# EAGLE library part SWD (library programming_headers)
SWD Programming Interface
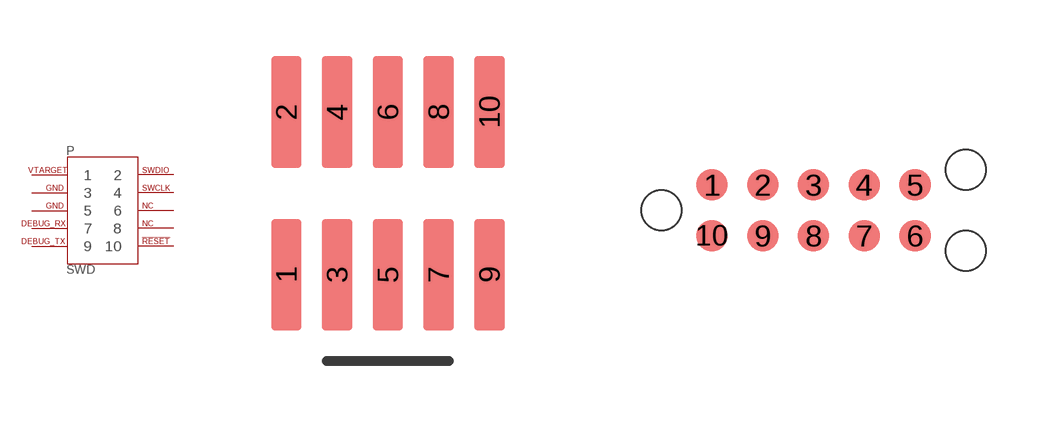
[diagram p0: symbol with the pads of SAMTEC_FTSH-105-01-L-DV-K; footprints SAMTEC_FTSH-105-01-L-DV-K, TC2030-MCP-NL]

Designator prefix P

## SWD-CORTEX (MF: Samtec; MP: FTSH-105-01-L-DV-K-TR; VALUE: FTSH-105-01-L-DV-K-TR)  [SAMTEC_FTSH-105-01-L-DV-K]
1  1  pwr
2  2
3  3  pwr
4  4
5  5  pwr
6  6  nc
7  7
8  8  nc
9  9
10  10

## SWD-TAGCON (MF: Tag Connect; MP: TC2030-MCP-NL; VALUE: TC2030-MCP-NL)  [TC2030-MCP-NL]
Pads as for SAMTEC_FTSH-105-01-L-DV-K

## Footprint SAMTEC_FTSH-105-01-L-DV-K (pad centres in mm)
smd 0.762 x 2.794: 1 -2.54,-2.032; 2 -2.54,2.032; 3 -1.27,-2.032; 4 -1.27,2.032; 5 0,-2.032; 6 0,2.032; 7 1.27,-2.032; 8 1.27,2.032; 9 2.54,-2.032; 10 2.54,2.032

## Footprint TC2030-MCP-NL (pad centres in mm)
TAG-CONNECT ISP Connector Manufacturer: Tag-Connect <www.tag-connect.com> Cable for easy In-Circuit PCB Programming. Designed for Standard JTAG 10 Pin, suitable for many others. Footprint for TC2050 NL PAD Description 1 VTREF 2 nTRST 3 TDI 4 TMS 5 TCK 6 RTCK 7 TDO 8 RESET 9 GND 10 NC ©2009 ROFA.cz Modified 7/2011 by Tim McCarthy-Smith VIDA Products INC
smd 0.787 x 0.787: 1 1.27,0.635; 2 2.54,0.635; 3 3.81,0.635; 4 5.08,0.635; 5 6.35,0.635; 6 6.35,-0.635; 7 5.08,-0.635; 8 3.81,-0.635; 9 2.54,-0.635; 10 1.27,-0.635
hole 1 at 0,0
hole 1 at 7.62,-1.016
hole 1 at 7.62,1.016